# Altium schematic symbol library MS7210.Schlib: 1 symbol
Pins are listed as number, name and electrical type; pins without a type are passive.

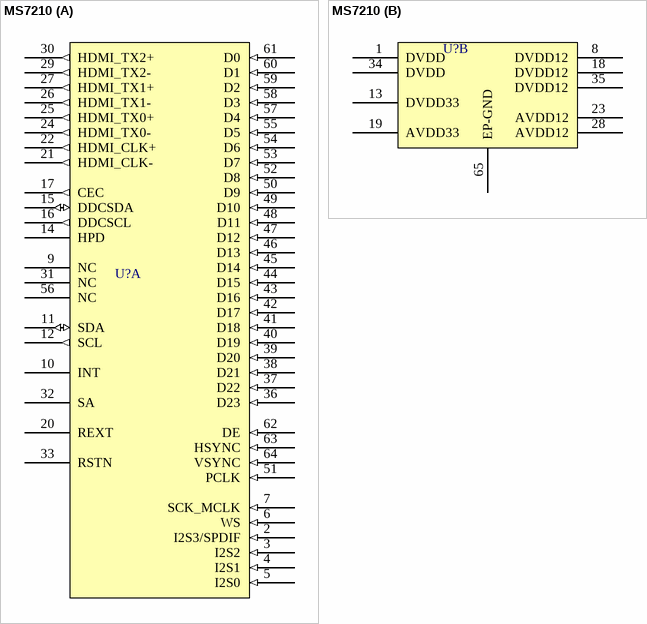
[diagram p0: symbol MS7210]

## MS7210
designator U?
Digital RGB/YUV to HDMI Bridge
part A pins: 2 I2S3/SPDIF (in), 3 I2S2 (in), 4 I2S1 (in), 5 I2S0 (in), 6 WS (in), 7 SCK_MCLK (in), 9 NC, 10 INT, 11 SDA (io), 12 SCL (out), 14 HPD, 15 DDCSDA (io), 16 DDCSCL (out), 17 CEC (out), 20 REXT, 21 HDMI_CLK- (out), 22 HDMI_CLK+ (out), 24 HDMI_TX0- (out), 25 HDMI_TX0+ (out), 26 HDMI_TX1- (out), 27 HDMI_TX1+ (out), 29 HDMI_TX2- (out), 30 HDMI_TX2+ (out), 31 NC, 32 SA, 33 RSTN, 36 D23 (in), 37 D22 (in), 38 D21 (in), 39 D20 (in), 40 D19 (in), 41 D18 (in), 42 D17 (in), 43 D16 (in), 44 D15 (in), 45 D14 (in), 46 D13 (in), 47 D12 (in), 48 D11 (in), 49 D10 (in), 50 D9 (in), 51 PCLK (in), 52 D8 (in), 53 D7 (in), 54 D6 (in), 55 D5 (in), 56 NC, 57 D4 (in), 58 D3 (in), 59 D2 (in), 60 D1 (in), 61 D0 (in), 62 DE (in), 63 HSYNC (in), 64 VSYNC (in)
part B pins: 1 DVDD (power), 8 DVDD12 (power), 13 DVDD33 (power), 18 DVDD12 (power), 19 AVDD33 (power), 23 AVDD12 (power), 28 AVDD12 (power), 34 DVDD (power), 35 DVDD12 (power), 65 EP-GND (power)